# Altium integrated library PAM8406ER.IntLib: 1 symbol
Pins are listed as number, name and electrical type; pins without a type are passive.

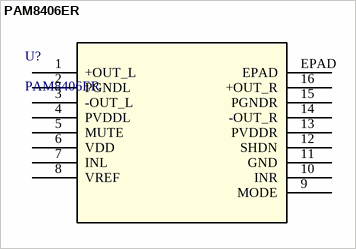
[diagram p0: symbol PAM8406ER]

## PAM8406ER
designator U?
Description; Manufacturer_Name: Diodes Inc; Copyright: Copyright (C) 2025 Ultra Librarian. All rights reserved.; Manufacturer_Part_Number: PAM8406ER; RefDes: RefDes; Type: Type
footprint PAM8406ER_DIO
pins: 1 +OUT_L, 2 PGNDL, 3 -OUT_L, 4 PVDDL, 5 MUTE, 6 VDD, 7 INL, 8 VREF, 9 MODE, 10 INR, 11 GND, 12 SHDN, 13 PVDDR, 14 -OUT_R, 15 PGNDR, 16 +OUT_R, EPAD